# EAGLE library part 648108131822 (library Wire-to-Board (rev18a))
WR-WTB 1.50mm SMT Male Horizontal Shrouded Header, 8 Pins=>Code : Con_WTB_1.50_PCB_SMT_648108131822 <http://katalog.we-online.de/media/thumbs2/eican/thb_Con_WTB_1.50_PCB_SMT_6481xx131822_pf2.jpg> Details see: http://katalog.we-online.de/en/em/WTB_1_50_SMT_MALE_HORIZONTAL_SHROUDED_HEADER_6481XX131822 Created 2014-06-06, Karrer Zheng 2014 (C) Würth Elektronik
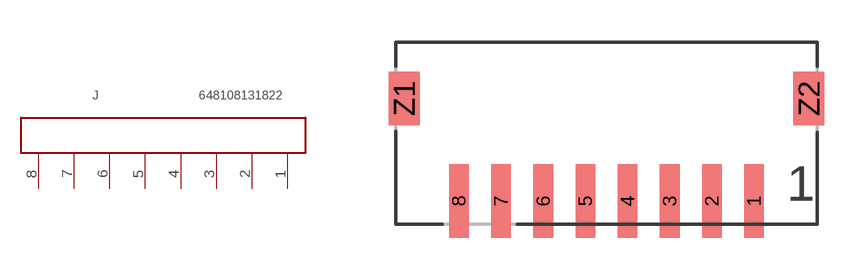
[diagram p50: symbol with the pads of 648108131822; footprint 648108131822]

Designator prefix J

## 648108131822  [648108131822]
1  1  pas
2  2  pas
3  3  pas
4  4  pas
5  5  pas
6  6  pas
7  7  pas
8  8  pas

## Footprint 648108131822 (pad centres in mm)
WR-WTB 1.50mm SMT Male Horizontal Shrouded Header, 8 Pins
smd 0.7 x 2.6: 1 5.25,0; 2 3.75,0; 3 2.25,0; 4 0.75,0; 5 -0.75,0; 6 -2.25,0; 7 -3.75,0; 8 -5.25,0
smd 1.1 x 1.9: Z1 -7.2,3.65; Z2 7.2,3.65